# Altium integrated library DRV8701PRGET.IntLib: 1 symbol
Pins are listed as number, name and electrical type; pins without a type are passive.

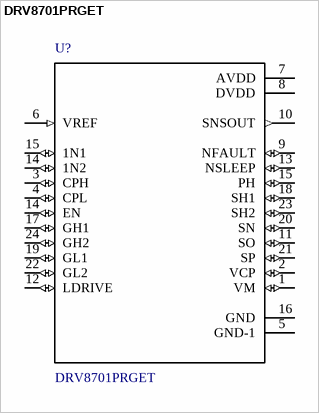
[diagram p0: symbol DRV8701PRGET]

## DRV8701PRGET
designator U?
Brushed DC Motor Gate Driver _PH/EN, PWM Ctrl_ 24-VQFN -40 to 125; MF: Texas Instruments; SnapEDA_Link: https://www.snapeda.com/parts/DRV8701PRGET/Texas%20Instruments/view-part/?ref=snap; Availability: Unavailable; Price: None; MP: DRV8701PRGET; Package: VQFN-24 Texas Instruments; Value: *
footprint QFN50P400X400X100-25N
pins: 1 VM (io), 2 VCP (io), 3 CPH (io), 4 CPL (io), 5 GND-1 (power), 6 VREF (in), 7 AVDD (power), 8 DVDD (power), 9 NFAULT (io), 10 SNSOUT (out), 11 SO (io), 12 LDRIVE (io), 13 NSLEEP (io), 14 EN (io), 14 1N2 (io), 15 PH (io), 15 1N1 (io), 16 GND (power), 17 GH1 (io), 18 SH1 (io), 19 GL1 (io), 20 SN (io), 21 SP (io), 22 GL2 (io), 23 SH2 (io), 24 GH2 (io)